# EAGLE library part MAX1719 (library maxim1719-21)
MAX 1719 ChargePump Voltage Inverter IN 1,5 - 5,5 V ICC 0,65 mA max VOUT - VIN IOUT (typ) 25 mA frequency 125kHz Package SOT-23-6 Temp-Range -40 C .. 85 C For details please visit the manufactor's homepage
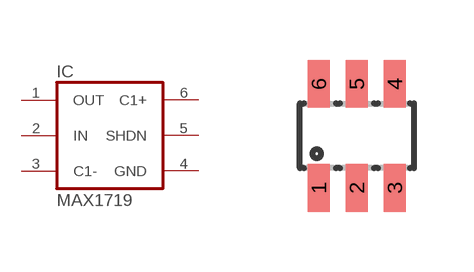
[diagram p0: symbol with the pads of SOT23-6L; footprint SOT23-6L]

Designator prefix IC

## MAX1719  [SOT23-6L]
1  OUT  sup
2  IN  sup
3  C1-  pas
4  GND  sup
5  SHDN  in
6  C1+  pas

## Footprint SOT23-6L (pad centres in mm)
Small Outline Transistor
smd 0.55 x 1.2: 1 -0.95,-1.3; 2 0,-1.3; 3 0.95,-1.3; 4 0.95,1.3; 5 0,1.3; 6 -0.95,1.3